# EAGLE library part PIC10F22* (library microchip)
Microchip PIC10F220 and 222 6-pin 8-bit Flash microcontroller 256/512 words program memory, 16/23 bytes RAM 4 I/O, 1 8-bit timer, 1 8-bit A/D on PIC10F222
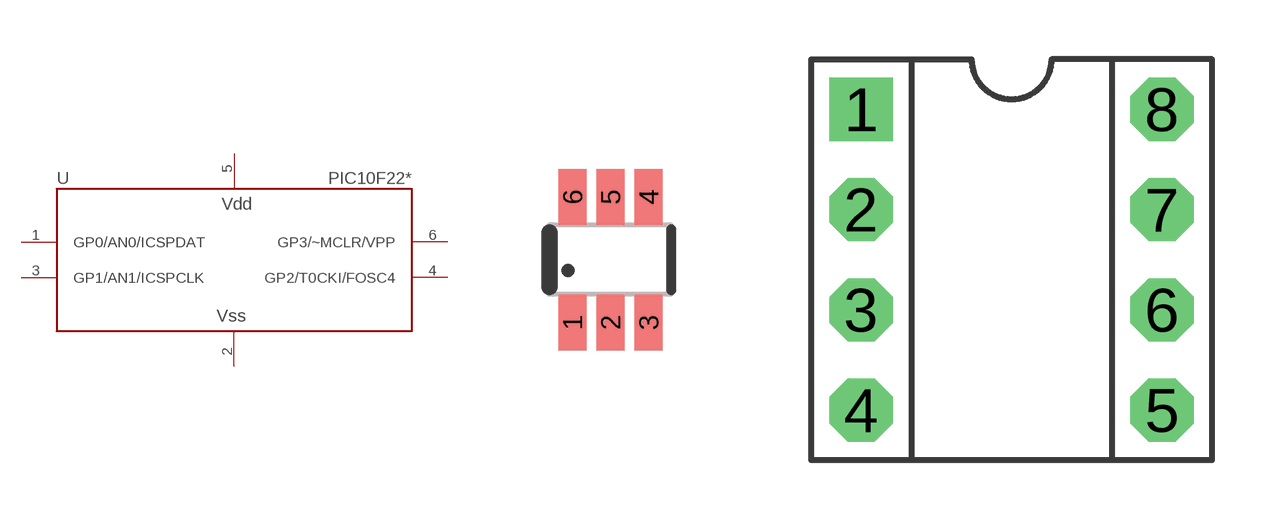
[diagram p15: symbol with the pads of SOT-23-6; footprints SOT-23-6, DIP-8]

Designator prefix U

## PIC10F220OT, PIC10F222OT  [SOT-23-6]
1  GP0/AN0/ICSPDAT
2  VSS  pwr
3  GP1/AN1/ICSPCLK
4  GP2/T0CKI/FOSC4
5  VDD  pwr
6  GP3/~MCLR/VPP  in

## PIC10F220P, PIC10F222P  [DIP-8]
2  VDD  pwr
3  GP2/T0CKI/FOSC4
4  GP1/AN1/ICSPCLK
5  GP0/AN0/ICSPDAT
7  VSS  pwr
8  GP3/~MCLR/VPP  in

## Footprint SOT-23-6 (pad centres in mm)
smd 0.7 x 1.4: 1 -0.953,-1.57; 2 0,-1.57; 3 0.953,-1.57; 4 0.953,1.57; 5 -0.003,1.57; 6 -0.95,1.57

## Footprint DIP-8 (pad centres in mm)
DIP-8
drill 0.813 pad 1.6 square: 1 -3.81,3.81
drill 0.813 pad 1.6 octagon: 2 -3.81,1.27; 3 -3.81,-1.27; 4 -3.81,-3.81; 5 3.81,-3.81; 6 3.81,-1.27; 7 3.81,1.27; 8 3.81,3.81